# Altium footprint library MOD_EZR_HIGH_QUALITY_V01.pcblib: 1 footprints
Each footprint in its own frame and in the unit in brackets; x right, y up, seen from the top. Pads: shape width x height; smd on the part's side, far side on the other; paste and mask are expansions set on the pad; w line width, h text height; cw(c..) or ccw(c..) is an arc to the next point about the centre after c.
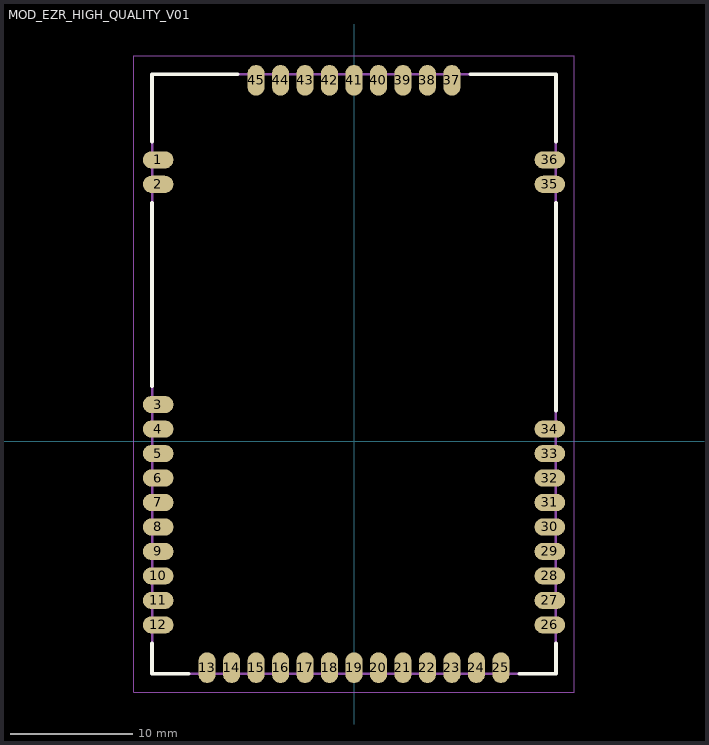
[diagram p0: the footprint, top view; thin cyan lines are the x and y axes]

## MOD_EZR_HIGH_QUALITY_V01 [mm]
pads (45):
  oval 2.5x1.4 smd: 1(-16,23) 2(-16,21) 3(-16,3) 4(-16,1) 5(-16,-1) 6(-16,-3) 7(-16,-5) 8(-16,-7) 9(-16,-9) 10(-16,-11) 11(-16,-13) 12(-16,-15) 26(16,-15) 27(16,-13) 28(16,-11) 29(16,-9) 30(16,-7) 31(16,-5) 32(16,-3) 33(16,-1) 34(16,1) 35(16,21) 36(16,23)
  oval 1.4x2.5 smd: 13(-12,-18.5) 14(-10,-18.5) 15(-8,-18.5) 16(-6,-18.5) 17(-4,-18.5) 18(-2,-18.5) 19(0,-18.5) 20(2,-18.5) 21(4,-18.5) 22(6,-18.5) 23(8,-18.5) 24(10,-18.5) 25(12,-18.5) 37(8,29.5) 38(6,29.5) 39(4,29.5) 40(2,29.5) 41(0,29.5) 42(-2,29.5) 43(-4,29.5) 44(-6,29.5) 45(-8,29.5)
Top Overlay:
  lines w0.305: -16.5,-16.5 -16.5,-19 -13.5,-19 ; -16.5,4.5 -16.5,19.5 ; -16.5,24.5 -16.5,30 -9.5,30 ; 9.5,30 16.5,30 16.5,24.5 ; 13.5,-19 16.5,-19 16.5,-16.5 ; 16.5,2.5 16.5,19.5
Mechanical 13:
  lines w0.2: -16.5,-19 16.5,-19 16.5,30 -16.5,30 -16.5,-19
Mechanical 15:
  lines w0.1: -18,-20.5 -18,31.5 18,31.5 18,-20.5 -18,-20.5
Mechanical 17:
  text "'.Designator'" at -14,2 h2.5
Mechanical 19:
  text "'.Comment'" at -11,2 h2.5
3D body "zamel_HQ_5_5mm.step": height 7.16, standoff 0.07, extent -16.5,-19 16.5,30